# Altium footprint library 104642-1610.PcbLib: 1 footprints
Each footprint in its own frame and in the unit in brackets; x right, y up, seen from the top. Pads: shape width x height; smd on the part's side, far side on the other; paste and mask are expansions set on the pad; w line width, h text height; cw(c..) or ccw(c..) is an arc to the next point about the centre after c.
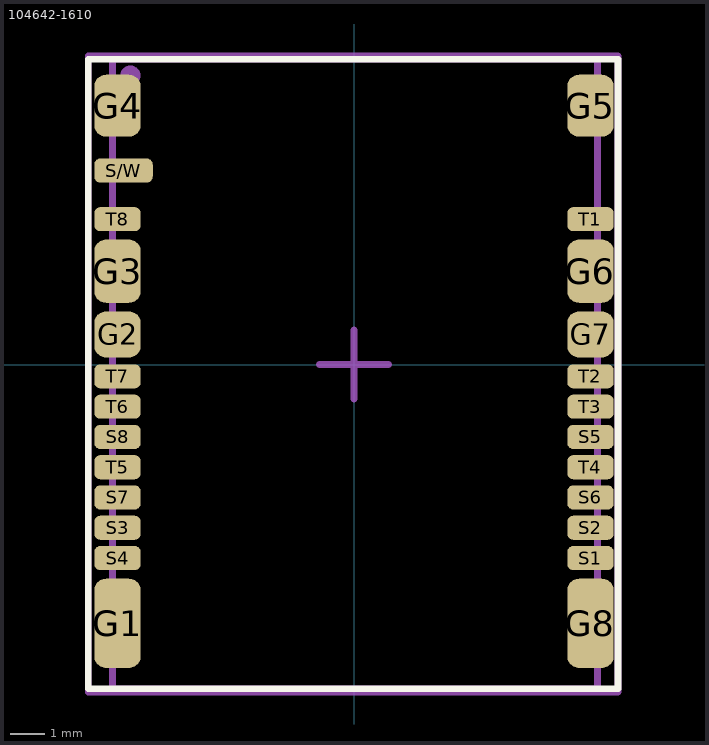
[diagram p0: the footprint, top view; thin cyan lines are the x and y axes]

## 104642-1610 [mm]
pads (25):
  rrect50% 1.35x2.6 smd paste-0.04 mask+0.05: G1(-6.875,-7.525) G8(6.875,-7.525)
  rrect50% 1.35x1.34 smd paste-0.04 mask+0.05: G2(-6.875,0.875) G7(6.875,0.875)
  rrect50% 1.35x1.84 smd paste-0.04 mask+0.05: G3(-6.875,2.715) G6(6.875,2.715)
  rrect50% 1.35x1.8 smd paste-0.04 mask+0.05: G4(-6.875,7.525) G5(6.875,7.525)
  rrect50% 1.35x0.7 smd paste-0.04 mask+0.05: S1(6.875,-5.625) S2(6.875,-4.745) S3(-6.875,-4.745) S4(-6.875,-5.625) S5(6.875,-2.105) S6(6.875,-3.865) S7(-6.875,-3.865) S8(-6.875,-2.105) T1(6.875,4.225) T2(6.875,-0.345) T3(6.875,-1.225) T4(6.875,-2.985) T5(-6.875,-2.985) T6(-6.875,-1.225) T7(-6.875,-0.345) T8(-6.875,4.225)
  rrect50% 1.7x0.7 smd paste-0.04 mask+0.05: S/W(-6.7,5.64)
Top Overlay:
  lines w0.2: -7.725,-9.425 -7.725,8.875 7.675,8.875 7.675,-9.425 -7.725,-9.425
Top Assembly:
  circle w0.3: c-6.5,8.4 r0.141
  lines w0.2: -7.025,-9.425 7.075,-9.425 7.075,8.875 -7.025,8.875 -7.025,-9.425
Top Courtyard:
  lines w0.2: -1,0 1,0 ; 0,-1 0,1 ; -7.725,-9.525 -7.725,8.975 7.675,8.975 7.675,-9.525 -7.725,-9.525
3D body "1046421610.stp": height 2.14, standoff 0.04, extent -7.025,-9.375 7.075,8.875